# EAGLE library part ETH-6X1-ALT (library et8mg)
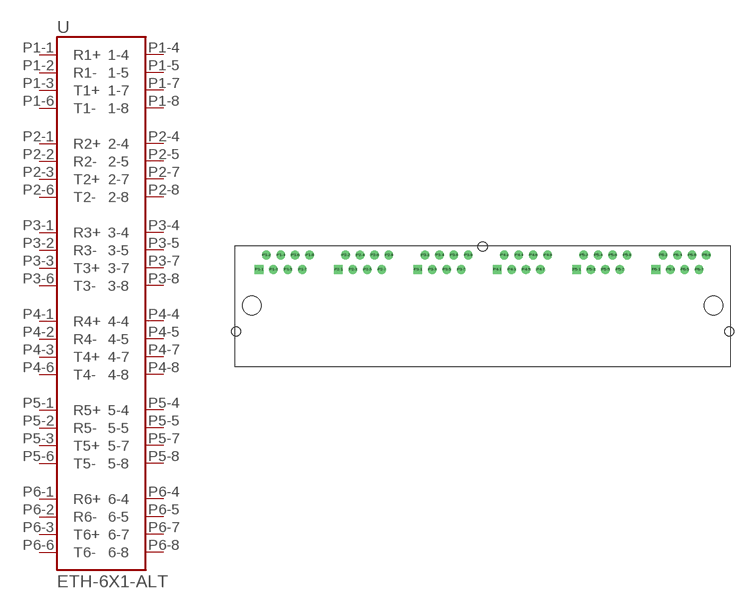
[diagram p1: symbol with the pads of ETH-6X1-NOLED; footprint ETH-6X1-NOLED]

Designator prefix -

## ETH-6X1-ALT  [ETH-6X1-NOLED]
P1-1  R1+
P1-2  R1-
P1-3  T1+
P1-4  1-4
P1-5  1-5
P1-6  T1-
P1-7  1-7
P1-8  1-8
P2-1  R2+
P2-2  R2-
P2-3  T2+
P2-4  2-4
P2-5  2-5
P2-6  T2-
P2-7  2-7
P2-8  2-8
P3-1  R3+
P3-2  R3-
P3-3  T3+
P3-4  3-4
P3-5  3-5
P3-6  T3-
P3-7  3-7
P3-8  3-8
P4-1  R4+
P4-2  R4-
P4-3  T4+
P4-4  4-4
P4-5  4-5
P4-6  T4-
P4-7  4-7
P4-8  4-8
P5-1  R5+
P5-2  R5-
P5-3  T5+
P5-4  5-4
P5-5  5-5
P5-6  T5-
P5-7  5-7
P5-8  5-8
P6-1  R6+
P6-2  R6-
P6-3  T6+
P6-4  6-4
P6-5  6-5
P6-6  T6-
P6-7  6-7
P6-8  6-8

## Footprint ETH-6X1-NOLED (pad centres in mm)
drill 1.016 square: P1-1 -39.37,-1.27; P2-1 -25.4,-1.27; P3-1 -11.43,-1.27; P4-1 2.54,-1.27; P5-1 16.51,-1.27; P6-1 30.48,-1.27
drill 1.016: P1-2 -38.1,1.27; P1-3 -36.83,-1.27; P1-4 -35.56,1.27; P1-5 -34.29,-1.27; P1-6 -33.02,1.27; P1-7 -31.75,-1.27; P1-8 -30.48,1.27; P2-2 -24.13,1.27; P2-3 -22.86,-1.27; P2-4 -21.59,1.27; P2-5 -20.32,-1.27; P2-6 -19.05,1.27; P2-7 -17.78,-1.27; P2-8 -16.51,1.27; P3-2 -10.16,1.27; P3-3 -8.89,-1.27; P3-4 -7.62,1.27; P3-5 -6.35,-1.27; P3-6 -5.08,1.27; P3-7 -3.81,-1.27; P3-8 -2.54,1.27; P4-2 3.81,1.27; P4-3 5.08,-1.27; P4-4 6.35,1.27; P4-5 7.62,-1.27; P4-6 8.89,1.27; P4-7 10.16,-1.27; P4-8 11.43,1.27; P5-2 17.78,1.27; P5-3 19.05,-1.27; P5-4 20.32,1.27; P5-5 21.59,-1.27; P5-6 22.86,1.27; P5-7 24.13,-1.27; P5-8 25.4,1.27; P6-2 31.75,1.27; P6-3 33.02,-1.27; P6-4 34.29,1.27; P6-5 35.56,-1.27; P6-6 36.83,1.27; P6-7 38.1,-1.27; P6-8 39.37,1.27
hole 1.6 at -43.434,-12.192
hole 1.6 at 0,2.794
hole 1.6 at 43.434,-12.192
hole 3.302 at -40.64,-7.62
hole 3.302 at 40.64,-7.62